# Altium footprint library 503480-0800.PcbLib: 1 footprints
Each footprint in its own frame and in the unit in brackets; x right, y up, seen from the top. Pads: shape width x height; smd on the part's side, far side on the other; paste and mask are expansions set on the pad; w line width, h text height; cw(c..) or ccw(c..) is an arc to the next point about the centre after c.
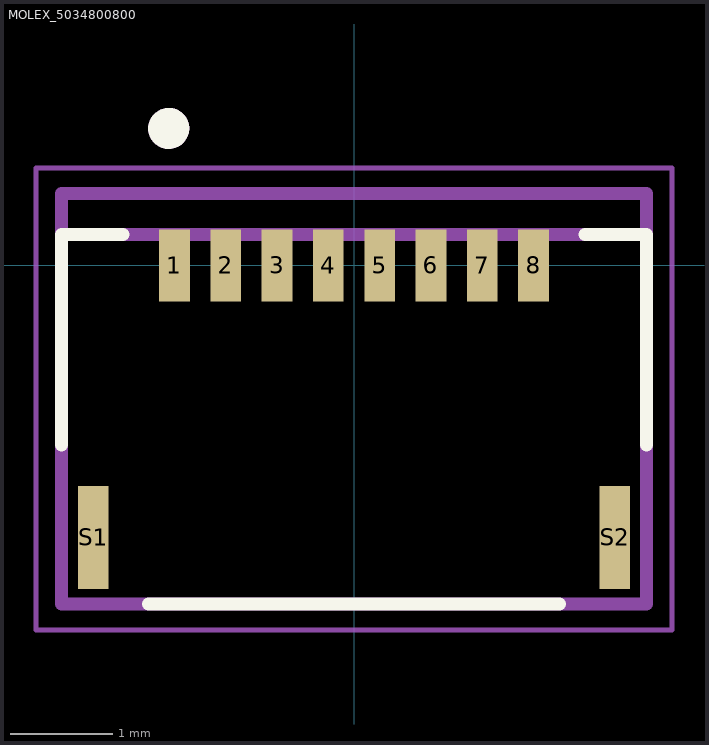
[diagram p0: the footprint, top view; thin cyan lines are the x and y axes]

## MOLEX_5034800800 [mm]
pads (10):
  rect 0.3x0.7 smd: 1(-1.75,0) 2(-1.25,0) 3(-0.75,0) 4(-0.25,0) 5(0.25,0) 6(0.75,0) 7(1.25,0) 8(1.75,0)
  rect 0.3x1 smd: S1(-2.54,-2.65) S2(2.54,-2.65)
Top Overlay:
  circle w0.2: c-1.805,1.335 r0.1
  lines w0.127: -2.85,-1.75 -2.85,0.3 -2.25,0.3 ; -2,-3.3 2,-3.3 ; 2.25,0.3 2.85,0.3 2.85,-1.75
Mechanical 13:
  circle w0.2: c-1.805,1.335 r0.1
  lines w0.127: -2.85,0.3 2.85,0.3 ; -2.85,0.3 -2.85,0.7 2.85,0.7 2.85,0.3 ; -2.85,0.3 -2.85,-3.3 2.85,-3.3 2.85,0.3
Mechanical 15:
  lines w0.05: -3.1,-3.55 -3.1,0.95 3.1,0.95 3.1,-3.55 -3.1,-3.55